# Altium footprint library STM32F103RCT6最小系统.PcbLib: 12 footprints
Each footprint in its own frame and in the unit in brackets; x right, y up, seen from the top. Pads: shape width x height; smd on the part's side, far side on the other; paste and mask are expansions set on the pad; w line width, h text height; cw(c..) or ccw(c..) is an arc to the next point about the centre after c.
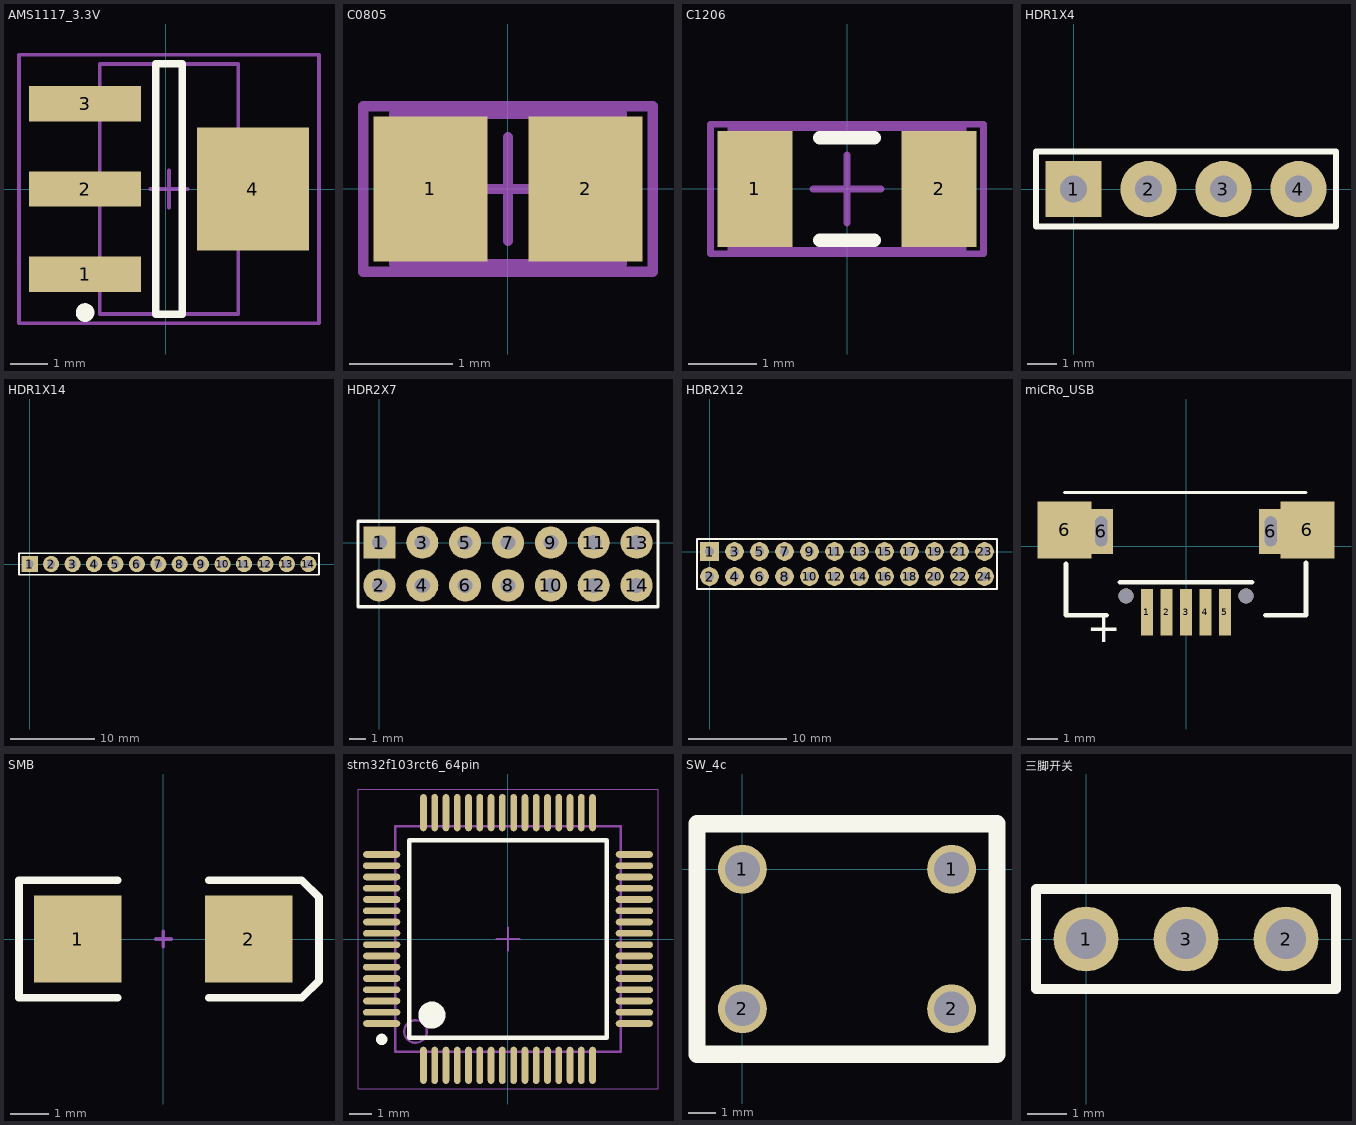
[diagram p0: the footprints below, top view; thin cyan lines are the x and y axes]

## AMS1117_3.3V [mm]
pads (4):
  rect 3x0.95 smd: 1(-2.159,-2.286) 2(-2.159,0.004) 3(-2.159,2.294)
  rect 3x3.3 smd: 4(2.341,0.004)
Top Overlay:
  circle w0.25: c-2.159,-3.311 r0.125
  lines w0.2: -0.259,-3.351 0.441,-3.351 0.441,3.359 -0.259,3.359 -0.259,-3.351
Mechanical 13:
  lines w0.1: -1.764,-3.351 1.946,-3.351 1.946,3.359 -1.764,3.359 -1.764,-3.351
Mechanical 15:
  lines w0.1: -0.409,0.004 0.591,0.004 ; 0.091,-0.496 0.091,0.504 ; -3.934,-3.601 4.116,-3.601 4.116,3.609 -3.934,3.609 -3.934,-3.601
3D body: height 1.8, standoff 0.64, extent -1.764,-3.351 1.946,3.359

## C0805 [mm]
pads (2):
  rect 1.1x1.4 smd: 1(-0.75,0) 2(0.75,0)
Mechanical 13:
  lines w0.1: -1.1,-0.725 -1.1,0.725 1.1,0.725 1.1,-0.725 -1.1,-0.725
Mechanical 15:
  lines w0.1: -0.5,0 0.5,0 ; 0,-0.5 0,0.5 ; -1.4,-0.8 -1.4,0.8 1.4,0.8 1.4,-0.8 -1.4,-0.8
3D body: height 1.4, standoff 0, extent -1.1,-0.725 1.1,0.725

## C1206 [mm]
pads (2):
  rect 1.1x1.7 smd: 1(-1.35,0) 2(1.35,0)
Top Overlay:
  lines w0.2: -0.4,-0.75 0.4,-0.75 ; -0.4,0.75 0.4,0.75
Mechanical 13:
  lines w0.1: -1.7,-0.9 -1.7,0.9 1.7,0.9 1.7,-0.9 -1.7,-0.9
Mechanical 15:
  lines w0.1: -0.5,0 0.5,0 ; 0,-0.5 0,0.5 ; -2,-0.95 -2,0.95 2,0.95 2,-0.95 -2,-0.95
3D body: height 1.3, standoff 0, extent -1.7,-0.9 1.7,0.9

## HDR1X4 [mm]
pads (4):
  rect 1.905x1.905 hole 0.9: 1(0,0)
  round 1.905 hole 0.9: 2(2.54,0) 3(5.08,0) 4(7.62,0)
Top Overlay:
  lines w0.2: -1.27,-1.27 8.89,-1.27 8.89,1.27 -1.27,1.27 -1.27,-1.27

## HDR1X14 [mm]
pads (14):
  rect 1.905x1.905 hole 0.9: 1(0,0)
  round 1.905 hole 0.9: 2(2.54,0) 3(5.08,0) 4(7.62,0) 5(10.16,0) 6(12.7,0) 7(15.24,0) 8(17.78,0) 9(20.32,0) 10(22.86,0) 11(25.4,0) 12(27.94,0) 13(30.48,0) 14(33.02,0)
Top Overlay:
  lines w0.2: -1.27,-1.27 -1.27,1.27 34.29,1.27 34.29,-1.27 0.635,-1.27 -1.27,-1.27

## HDR2X7 [mm]
pads (14):
  rect 1.905x1.905 hole 0.9: 1(0,0)
  round 1.905 hole 0.9: 2(0,-2.54) 3(2.54,0) 4(2.54,-2.54) 5(5.08,0) 6(5.08,-2.54) 7(7.62,0) 8(7.62,-2.54) 9(10.16,0) 10(10.16,-2.54) 11(12.7,0) 12(12.7,-2.54) 13(15.24,0) 14(15.24,-2.54)
Top Overlay:
  lines w0.2: -1.27,-3.81 16.51,-3.81 16.51,1.27 -1.27,1.27 -1.27,-3.81

## HDR2X12 [mm]
pads (24):
  rect 1.905x1.905 hole 0.9: 1(0,0)
  round 1.905 hole 0.9: 2(0,-2.54) 3(2.54,0) 4(2.54,-2.54) 5(5.08,0) 6(5.08,-2.54) 7(7.62,0) 8(7.62,-2.54) 9(10.16,0) 10(10.16,-2.54) 11(12.7,0) 12(12.7,-2.54) 13(15.24,0) 14(15.24,-2.54) 15(17.78,0) 16(17.78,-2.54) 17(20.32,0) 18(20.32,-2.54) 19(22.86,0) 20(22.86,-2.54) 21(25.4,0) 22(25.4,-2.54) 23(27.94,0) 24(27.94,-2.54)
Top Overlay:
  lines w0.2: -1.27,-3.81 29.21,-3.81 29.21,1.27 -1.27,1.27 -1.27,-3.81

## miCRo_USB [mm]
pads (11):
  rect 0.4x1.55 smd: 1(-1.3,-2.2) 2(-0.65,-2.2) 3(0,-2.2) 4(0.65,-2.2) 5(1.3,-2.2)
  rect 1.8x1.9 smd: 6(-4.05,0.55) 6(4.05,0.55)
  rect 0.8x1.5 hole 0.4 slot 1 at 90 deg: 6(-2.825,0.5) 6(2.825,0.5)
  round 0.5 hole 0.5 unplated: ""(-2,-1.65) ""(2,-1.65)
Top Overlay:
  lines w0.1: -4.05,1.8 4,1.8
  lines w0.152: -4,-0.584 -4,-2.3 -2.65,-2.3 ; -2.2,-1.2 2.2,-1.2 ; 2.65,-2.3 4,-2.3 4,-0.55
  text "+" at -3.3,-2.35 h1
Keep-Out Layer:
  lines w0.127: -3.054,-0.075 -3.054,1.043 -2.596,1.043 -2.596,-0.075 -3.054,-0.075 ; 2.596,-0.075 2.596,1.043 3.054,1.043 3.054,-0.075 2.596,-0.075
Mechanical 1:
  lines w0.127: -3.054,-0.075 -2.596,-0.075 -2.596,1.043 -3.054,1.043 -3.054,-0.075 ; 2.596,-0.075 3.054,-0.075 3.054,1.043 2.596,1.043 2.596,-0.075

## SMB [mm]
pads (2):
  rect 2.3x2.3 smd: 1(-2.25,0) 2(2.25,0)
Top Overlay:
  lines w0.2: -1.2,-1.55 -3.8,-1.55 -3.8,1.55 -1.2,1.55 ; 1.2,-1.55 3.65,-1.55 4.1,-1.1 4.1,1.1 3.65,1.55 1.2,1.55
Mechanical 1:
  lines w0.1: -0.2,0 0.2,0 ; 0,-0.2 0,0.2

## stm32f103rct6_64pin [mm]
pads (64):
  oval 1.65x0.3 smd: 1(-5.6,-3.75) 2(-5.6,-3.25) 3(-5.6,-2.75) 4(-5.6,-2.25) 5(-5.6,-1.75) 6(-5.6,-1.25) 7(-5.6,-0.75) 8(-5.6,-0.25) 9(-5.6,0.25) 10(-5.6,0.75) 11(-5.6,1.25) 12(-5.6,1.75) 13(-5.6,2.25) 14(-5.6,2.75) 15(-5.6,3.25) 16(-5.6,3.75) 33(5.6,3.75) 34(5.6,3.25) 35(5.6,2.75) 36(5.6,2.25) 37(5.6,1.75) 38(5.6,1.25) 39(5.6,0.75) 40(5.6,0.25) 41(5.6,-0.25) 42(5.6,-0.75) 43(5.6,-1.25) 44(5.6,-1.75) 45(5.6,-2.25) 46(5.6,-2.75) 47(5.6,-3.25) 48(5.6,-3.75)
  oval 0.3x1.65 smd: 17(-3.75,5.6) 18(-3.25,5.6) 19(-2.75,5.6) 20(-2.25,5.6) 21(-1.75,5.6) 22(-1.25,5.6) 23(-0.75,5.6) 24(-0.25,5.6) 25(0.25,5.6) 26(0.75,5.6) 27(1.25,5.6) 28(1.75,5.6) 29(2.25,5.6) 30(2.75,5.6) 31(3.25,5.6) 32(3.75,5.6) 49(3.75,-5.6) 50(3.25,-5.6) 51(2.75,-5.6) 52(2.25,-5.6) 53(1.75,-5.6) 54(1.25,-5.6) 55(0.75,-5.6) 56(0.25,-5.6) 57(-0.25,-5.6) 58(-0.75,-5.6) 59(-1.25,-5.6) 60(-1.75,-5.6) 61(-2.25,-5.6) 62(-2.75,-5.6) 63(-3.25,-5.6) 64(-3.75,-5.6)
Top Overlay:
  circle w0.6: c-3.375,-3.375 r0.3
  circle w0.25: c-5.6,-4.45 r0.125
  lines w0.2: -4.375,-4.375 4.375,-4.375 4.375,4.375 -4.375,4.375 -4.375,-4.375
Mechanical 13:
  circle w0.1: c-4.1,-4.1 r0.5
  lines w0.1: -5,-5 5,-5 5,5 -5,5 -5,-5
Mechanical 15:
  lines w0.05: -6.65,-6.65 6.65,-6.65 6.65,6.65 -6.65,6.65 -6.65,-6.65
  lines w0.1: -0.5,0 0.5,0 ; 0,-0.5 0,0.5
3D body: height 1.6, standoff 0.05, extent -5,-5 5,5

## SW_4c [mil]
pads (4):
  round 70 hole 50: 1(0,0) 1(300,0) 2(0,-200) 2(300,-200)
Top Overlay:
  lines w25: -65,-265 -65,65 365,65 365,-265 -65,-265

## 三脚开关 [mil]
pads (3):
  round 65 hole 40: 1(0,0) 2(200,0) 3(100,0)
Top Overlay:
  lines w10: -50,-50 250,-50 250,50 -50,50 -50,-50